# Altium footprint library Footprints.PcbLib: 34 footprints (part 3 of 3)
Each footprint in its own frame and in the unit in brackets; x right, y up, seen from the top. Pads: shape width x height; smd on the part's side, far side on the other; paste and mask are expansions set on the pad; w line width, h text height; cw(c..) or ccw(c..) is an arc to the next point about the centre after c.
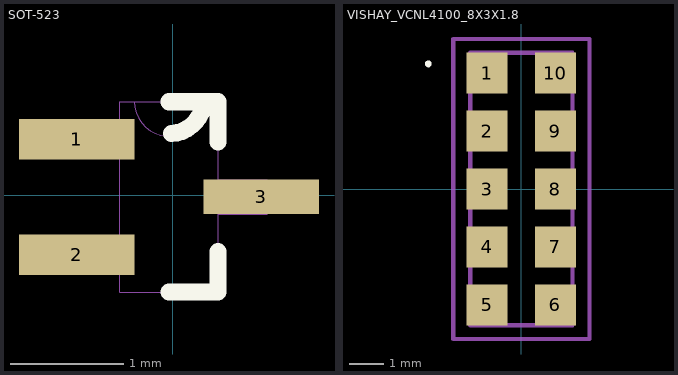
[diagram p2: the footprints below, top view; thin cyan lines are the x and y axes]

## SOT-523 [mil]
pads (3):
  rect 40x14 smd paste-1000 mask-1000: 1(-33.38,19.37) 2(-33.38,-20.63)
  rect 40x12 smd paste-1000 mask-1000: 3(30.62,-0.63)
Top Overlay:
  lines w6: -1.38,-33.63 15.62,-33.63 15.62,-19.63 ; -1.38,32.37 10.62,32.37 15.62,32.37 15.62,18.37 ; -0.48,21.36 ccw(c-1.09,33.09) 10.62,32.27
Top Paste:
  region: -53.38,12.37 -13.38,12.37 -13.38,26.37 -53.38,26.37
  region: -53.38,-27.63 -13.38,-27.63 -13.38,-13.63 -53.38,-13.63
  region: 10.62,-6.63 50.62,-6.63 50.62,5.37 10.62,5.37
Top Solder:
  region: -53.38,12.37 -13.38,12.37 -13.38,26.37 -53.38,26.37
  region: -53.38,-27.63 -13.38,-27.63 -13.38,-13.63 -53.38,-13.63
  region: 10.62,-6.63 50.62,-6.63 50.62,5.37 10.62,5.37
Mechanical 1:
  lines w0: -18.38,-26.63 -18.38,-33.63 15.62,-33.63 15.62,-6.63 ; -18.38,-26.63 -18.38,-14.63 ; -18.38,-26.63 -35.38,-26.63 -35.38,-14.63 -18.38,-14.63 ; -18.38,-14.63 -18.38,13.37 ; -18.38,13.37 -18.38,25.37 ; -18.38,13.37 -35.38,13.37 -35.38,25.37 -18.38,25.37 ; -18.38,25.37 -18.38,32.37 -13.38,32.37 ; -13.38,32.37 ccw(c-1.38,32.37) 10.62,32.37 ; -13.38,32.37 10.62,32.37 ; 10.62,32.37 15.62,32.37 15.62,5.37 ; 15.62,-6.63 15.62,5.37 ; 15.62,-6.63 32.62,-6.63 32.62,5.37 15.62,5.37

## VISHAY_VCNL4100_8X3X1.8 [mm]
pads (10):
  rect 1.2x1.2 smd paste-25.4 mask-25.4: 1(-1,3.4) 2(-1,1.7) 3(-1,0) 4(-1,-1.7) 5(-1,-3.4) 6(1,-3.4) 7(1,-1.7) 8(1,0) 9(1,1.7) 10(1,3.4)
Top Overlay:
  circle w0.1: c-2.73,3.67 r0.05
Top Paste:
  region: 0.4,4 0.4,2.8 1.6,2.8 1.6,4
  region: 0.4,2.3 0.4,1.1 1.6,1.1 1.6,2.3
  region: -1.6,4 -1.6,2.8 -0.4,2.8 -0.4,4
  region: -1.6,2.3 -1.6,1.1 -0.4,1.1 -0.4,2.3
  region: 0.4,-2.8 0.4,-4 1.6,-4 1.6,-2.8
  region: -1.6,-2.8 -1.6,-4 -0.4,-4 -0.4,-2.8
  region: 0.4,-1.1 0.4,-2.3 1.6,-2.3 1.6,-1.1
  region: -1.6,-1.1 -1.6,-2.3 -0.4,-2.3 -0.4,-1.1
  region: 0.4,0.6 0.4,-0.6 1.6,-0.6 1.6,0.6
  region: -1.6,0.6 -1.6,-0.6 -0.4,-0.6 -0.4,0.6
Top Solder:
  region: 0.3,4.1 0.3,2.7 1.7,2.7 1.7,4.1
  region: 0.3,2.4 0.3,1 1.7,1 1.7,2.4
  region: -1.7,4.1 -1.7,2.7 -0.3,2.7 -0.3,4.1
  region: -1.7,2.4 -1.7,1 -0.3,1 -0.3,2.4
  region: 0.3,-2.7 0.3,-4.1 1.7,-4.1 1.7,-2.7
  region: -1.7,-2.7 -1.7,-4.1 -0.3,-4.1 -0.3,-2.7
  region: 0.3,-1 0.3,-2.4 1.7,-2.4 1.7,-1
  region: -1.7,-1 -1.7,-2.4 -0.3,-2.4 -0.3,-1
  region: 0.3,0.7 0.3,-0.7 1.7,-0.7 1.7,0.7
  region: -1.7,0.7 -1.7,-0.7 -0.3,-0.7 -0.3,0.7
Mechanical 1:
  lines w0.127: -2,-4.4 -2,4.4 2,4.4 2,-4.4 -2,-4.4 ; -1.5,-4 -1.5,4 1.5,4 1.5,-4 -1.5,-4